# Altium footprint library SMT1210.PcbLib: 2 footprints
Each footprint in its own frame and in the unit in brackets; x right, y up, seen from the top. Pads: shape width x height; smd on the part's side, far side on the other; paste and mask are expansions set on the pad; w line width, h text height; cw(c..) or ccw(c..) is an arc to the next point about the centre after c.
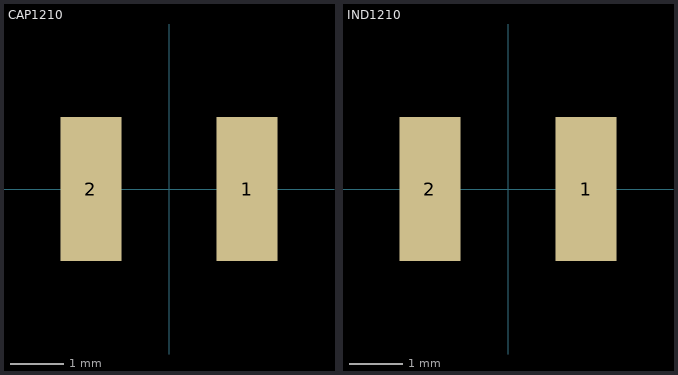
[diagram p0: the footprints below, top view; thin cyan lines are the x and y axes]

## CAP1210 [mm]
height 0.6
pads (2):
  rect 1.16x2.72 smd: 1(1.475,0) 2(-1.475,0)
3D body "CAP-1210.step": height 0.57, standoff 0, extent -1.6,-1.26 1.6,1.26

## IND1210 [mm]
height 0.6
pads (2):
  rect 1.16x2.72 smd: 1(1.475,0) 2(-1.475,0)
3D body "CAP1210.STEP": height 1.5, standoff 0, extent -1.7,-1.3 1.7,1.3